# EAGLE library part GSM_SIM_800L (library kxnStandard_frame_mutilsensor)
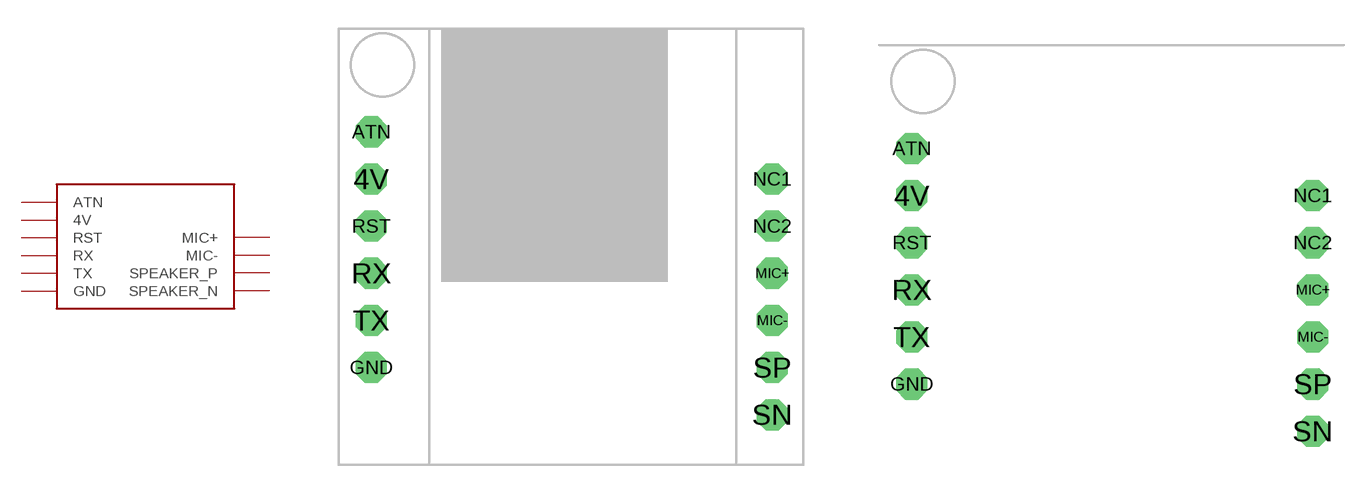
[diagram p4: symbol with the pads of GSM_A7670V_800L_FRAME; footprints GSM_A7670V_800L_FRAME, GSM_A7670_800L_FRAME_MINIMUM]

Designator prefix U

## GSM_SIM_800L_A7670C_  [GSM_A7670V_800L_FRAME]
4V  4V
ATN  ATN
GND  GND
MIC+  MIC+
MIC-  MIC-
RST  RST
RX  RX
SN  SPEAKER_N
SP  SPEAKER_P
TX  TX

## GSM_SIM_800L_MINI  [GSM_A7670_800L_FRAME_MINIMUM]
Pads as for GSM_A7670V_800L_FRAME

## Footprint GSM_A7670V_800L_FRAME (pad centres in mm)
drill 0.8 pad 1.676 octagon: 4V -10.75,6.35; ATN -10.75,8.89; GND -10.75,-3.81; MIC+ 10.84,1.27; MIC- 10.84,-1.27; NC1 10.84,6.35; NC2 10.84,3.81; RST -10.75,3.81; RX -10.75,1.27; SN 10.84,-6.35; SP 10.84,-3.81; TX -10.75,-1.27

## Footprint GSM_A7670_800L_FRAME_MINIMUM (pad centres in mm)
drill 0.8 pad 1.676 octagon: 4V -10.75,6.35; ATN -10.75,8.89; GND -10.75,-3.81; MIC+ 10.84,1.27; MIC- 10.84,-1.27; NC1 10.84,6.35; NC2 10.84,3.81; RST -10.75,3.81; RX -10.75,1.27; SN 10.84,-6.35; SP 10.84,-3.81; TX -10.75,-1.27